# Altium footprint library PcbLib_DW.PcbLib: 53 footprints (part 3 of 4)
Each footprint in its own frame and in the unit in brackets; x right, y up, seen from the top. Pads: shape width x height; smd on the part's side, far side on the other; paste and mask are expansions set on the pad; w line width, h text height; cw(c..) or ccw(c..) is an arc to the next point about the centre after c.
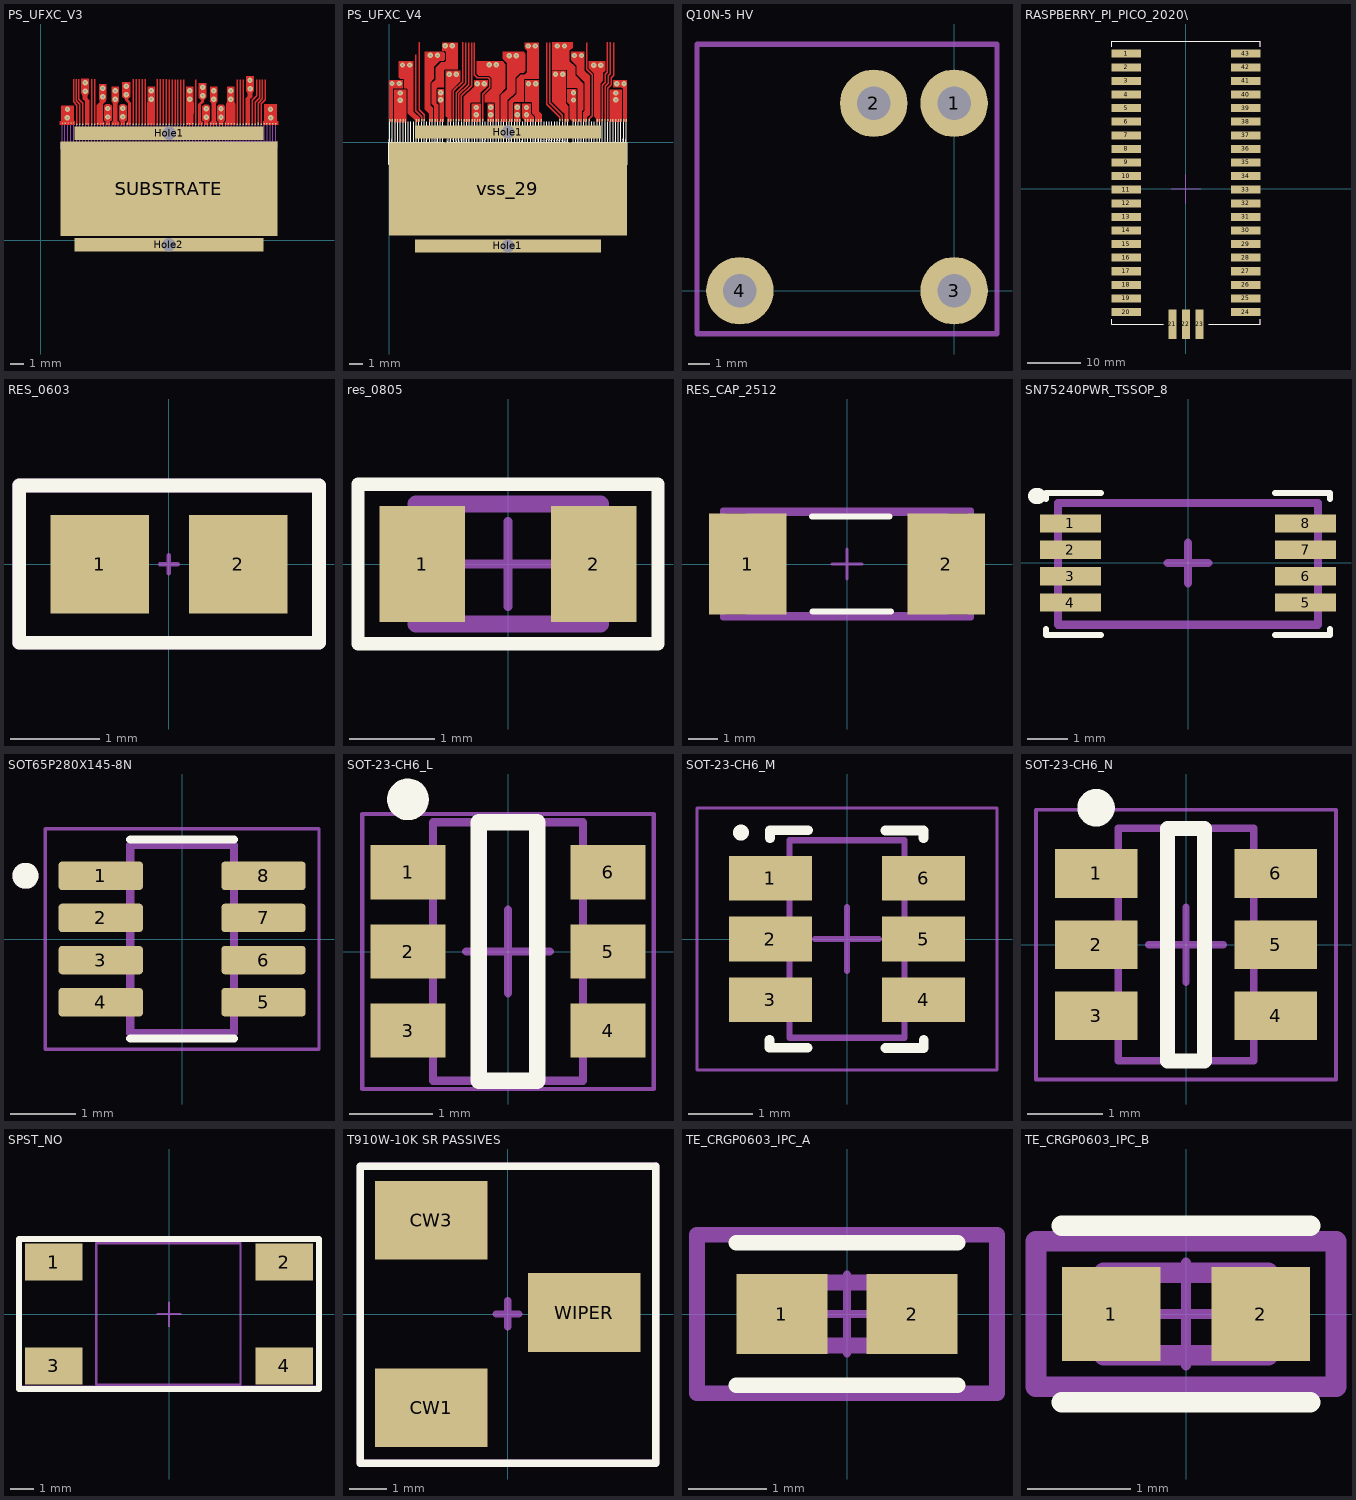
[diagram p2: the footprints below, top view; thin cyan lines are the x and y axes]

## PS_UFXC_V3 [mm]
pads (76):
  rect 0.102x0.102 smd mask+0: cal_n(3.758,8.6) cal_p(3.979,8.599) ctl_clk_n(7.276,8.6) ctl_clk_p(7.058,8.6) ctl_sin_n(7.724,8.598) ctl_sin_p(7.503,8.598) ctl_sout_n_0(9.283,8.601) ctl_sout_n_1(9.722,8.601) ctl_sout_n_2(10.163,8.601) ctl_sout_n_3(10.602,8.601) ctl_sout_p_0(9.061,8.601) ctl_sout_p_1(9.503,8.601) ctl_sout_p_2(9.944,8.601) ctl_sout_p_3(10.383,8.601) ctl_str_n(8.835,8.6) ctl_str_p(8.616,8.6) i_cas(2.659,8.6) i_dis(16.329,8.6) i_krum(2.878,8.6) i_ref(15.669,8.6) i_sh(15.888,8.6) i_trim(3.099,8.6) lvds_ref_in(6.838,8.6) lvds_ref_out(11.489,8.6) vt_2(15.008,8.601) vt_4(14.788,8.6) vt_r(14.567,8.6)
  rect 0.1x0.1 smd mask+0: detring_I(1.591,8.682) detring_II(17.419,8.641) prot_a_vdd(4.213,8.633) prot_a_vss(2.408,8.696) prot_r_vdd(14.118,8.634) prot_r_vss(16.552,8.646) Sub!_I(5.719,8.626) Sub!_II(12.586,8.64) vdd_a_I(4.436,8.625) vdd_a_II(4.608,8.632) vdd_a_III(13.685,8.634) vdd_a_IV(13.898,8.634) vdd_c_I(5.975,8.627) vdd_c_II(6.156,8.627) vdd_c_III(12.169,8.623) vdd_c_IV(12.345,8.624) vdd_d_I(4.875,8.622) vdd_d_II(5.059,8.621) vdd_d_III(13.253,8.633) vdd_d_IV(13.439,8.635) vdd_m_I(3.345,8.63) vdd_m_II(3.513,8.626) vdd_p_I(6.404,8.635) vdd_p_II(6.601,8.635) vdd_p_III(11.713,8.622) vdd_p_IV(11.91,8.624) vdd_ref(14.339,8.639) vshield_I(1.805,8.685) vshield_II(17.203,8.643) vss_a_I(2.025,8.693) vss_a_II(2.244,8.698) vss_a_III(5.315,8.62) vss_a_IV(5.53,8.621) vss_a_V(12.8,8.638) vss_a_VI(13.01,8.638) vss_a_VII(16.758,8.651) vss_a_VIII(16.979,8.643) vss_I(8.177,8.619) vss_II(8.389,8.624) vss_III(10.846,8.647) vss_IV(11.032,8.648) vss_s_I(7.958,8.619) vss_s_II(11.25,8.647)
  rect 14x1 hole 1 square mask+0: Hole1(9.501,7.928) Hole2(9.495,-0.327)
  rect 0.102x0.2 smd mask+0: i_source_ref(16.108,8.65)
  rect 16.1x7 smd mask+0: SUBSTRATE(9.496,3.808)
  rect 0.1x0.15 smd mask+0: vdd_m_III(15.237,8.617) vdd_m_IV(15.427,8.615)
via 12.81,11.085 diameter 0.404 hole 0.15
via 12.809,10.454 diameter 0.404 hole 0.15
via 11.987,10.725 diameter 0.404 hole 0.15
via 11.988,11.356 diameter 0.404 hole 0.15
via 13.354,9.135 diameter 0.404 hole 0.15
via 13.355,9.766 diameter 0.404 hole 0.15
via 11.043,10.463 diameter 0.404 hole 0.15
via 11.044,11.094 diameter 0.404 hole 0.15
via 5.511,10.453 diameter 0.404 hole 0.15
via 5.51,11.084 diameter 0.404 hole 0.15
via 4.967,9.774 diameter 0.404 hole 0.15
via 4.966,9.142 diameter 0.404 hole 0.15
via 3.27,11.062 diameter 0.404 hole 0.15
via 1.964,9.083 diameter 0.404 hole 0.15
via 1.969,9.717 diameter 0.404 hole 0.15
via 3.269,11.693 diameter 0.404 hole 0.15
via 4.584,10.643 diameter 0.404 hole 0.15
via 4.583,11.275 diameter 0.404 hole 0.15
via 6.075,9.776 diameter 0.404 hole 0.15
via 6.074,9.145 diameter 0.404 hole 0.15
via 8.175,11.096 diameter 0.404 hole 0.15
via 8.174,10.465 diameter 0.404 hole 0.15
via 12.262,9.136 diameter 0.404 hole 0.15
via 12.263,9.767 diameter 0.404 hole 0.15
via 6.335,10.798 diameter 0.404 hole 0.15
via 6.334,11.43 diameter 0.404 hole 0.15
via 14.085,10.452 diameter 0.404 hole 0.15
via 14.085,11.084 diameter 0.404 hole 0.15
via 15.508,11.862 diameter 0.404 hole 0.15
via 15.509,11.23 diameter 0.404 hole 0.15
via 17.026,9.718 diameter 0.404 hole 0.15
via 17.031,9.083 diameter 0.404 hole 0.15
Top Layer:
  region: 3.268,9.946 3.268,10.313 3.108,10.472 3.108,10.528 3.416,10.528 3.575,10.368 3.575,9.946
  region: 4.153,10.025 4.368,10.24 4.368,10.304 4.793,10.304 4.578,10.089 4.578,10.025
  region: 12.539,11.378 12.539,10.288 12.658,10.117 12.966,10.117 13.081,10.288 13.081,11.378
  region: 13.064,8.55 12.521,8.55 12.521,8.74 12.658,8.877 12.658,10.133 12.966,10.133 12.966,8.872 13.064,8.752
  region: 11.702,11.647 11.702,10.565 11.878,10.389 12.088,10.389 12.275,10.565 12.275,11.647
  region: 11.984,8.548 11.656,8.548 11.656,10.053 11.865,10.053 11.865,8.853 11.984,8.734
  region: 10.772,8.549 11.315,8.549 11.315,10.193 10.772,10.193
  region: 7.902,8.549 8.445,8.549 8.445,10.192 7.902,10.192
  region: 5.256,8.549 5.799,8.549 5.799,8.74 5.662,8.876 5.662,10.132 5.354,10.132 5.354,8.872 5.256,8.751
  region: 4.153,8.549 4.695,8.549 4.695,8.737 4.578,8.854 4.578,10.025 4.153,10.025
  region: 13.503,8.549 13.503,8.766 13.629,8.892 13.629,9.951 13.504,10.062 13.197,10.062 13.071,9.951 13.071,8.909 13.197,8.783 13.197,8.549
  region: 11.314,10.172 11.314,11.377 10.772,11.377 10.772,11.256 10.772,10.172
  region: 5.781,11.377 5.781,10.288 5.662,10.116 5.354,10.116 5.239,10.288 5.239,11.377
  region: 4.854,11.565 4.854,10.469 4.793,10.304 4.368,10.304 4.31,10.469 4.31,11.565
  region: 3.555,11.984 3.555,10.888 3.416,10.728 3.416,10.528 3.108,10.528 3.108,10.726 2.982,10.888 2.982,11.984
  region: 2.502,8.549 2.502,8.83 2.439,8.83 2.439,9.967 1.503,9.967 1.503,8.83 1.393,8.83 1.393,8.549
  region: 5.115,8.55 5.115,8.773 5.241,8.899 5.241,9.958 5.116,10.069 4.809,10.069 4.683,9.958 4.683,8.899 4.809,8.773 4.809,8.55
  region: 6.223,8.549 6.223,8.776 6.349,8.902 6.349,9.96 6.224,10.072 5.917,10.072 5.791,9.96 5.791,8.902 5.917,8.776 5.917,8.549
  region: 8.445,10.174 8.445,11.377 7.903,11.377 7.903,11.257 7.903,10.174
  region: 12.411,8.549 12.411,8.786 12.537,8.912 12.537,9.951 12.412,10.063 12.105,10.063 11.979,9.951 11.979,8.911 12.105,8.785 12.105,8.549
  region: 3.268,8.549 3.575,8.549 3.575,9.946 3.268,9.946
  region: 6.62,11.72 6.62,10.638 6.444,10.463 6.234,10.463 6.047,10.638 6.047,11.72
  region: 6.347,8.55 6.675,8.55 6.675,10.15 6.466,10.15 6.466,8.854 6.347,8.734
  region: 14.412,8.549 13.618,8.549 13.618,8.736 13.754,8.872 13.754,10.128 14.412,10.128 14.412,8.736
  region: 13.815,11.376 13.815,10.287 13.754,10.128 13.935,10.128 14.412,10.128 14.356,10.287 14.356,11.376
  region: 15.182,8.549 15.493,8.549 15.493,9.947 15.182,9.947
  region: 15.794,12.152 15.794,11.056 15.655,10.896 15.655,10.696 15.344,10.696 15.344,10.897 15.221,11.056 15.221,12.152
  region: 16.493,8.549 16.493,8.83 16.555,8.83 16.555,10.081 17.491,10.081 17.491,8.83 17.601,8.83 17.601,8.549
  region: 6.466,10.15 6.235,10.382 6.234,10.463 6.444,10.463 6.444,10.447 6.675,10.216 6.675,10.15
  region: 11.656,10.053
  region: 11.656,10.053 11.656,10.087 11.878,10.309 11.878,10.389 12.088,10.389 12.088,10.276 12.058,10.247 11.865,10.053
  region: 15.182,9.947 15.182,10.534 15.344,10.696 15.655,10.696 15.655,10.612 15.493,10.449 15.493,9.947
  lines w0.102: 2.425,11.928 2.425,10.259 2.659,10.025 2.659,9.967 2.659,9.93 2.659,8.6 ; 2.622,11.928 2.622,10.33 2.878,10.074 2.878,9.935 2.878,8.6 ; 2.812,11.928 2.812,10.446 3.099,10.158 3.099,9.938 3.099,8.6 ; 3.758,8.6 3.758,11.928 ; 3.976,11.928 3.979,8.599 ; 6.832,11.928 6.838,8.6 ; 7.056,11.928 7.058,8.6 ; 7.276,8.6 7.28,11.928 ; 7.503,8.598 7.503,11.928 ; 7.724,8.598 7.724,11.928 ; 8.616,8.6 8.616,11.926 ; 8.835,8.6 8.835,11.929 ; 9.061,8.601 9.061,11.924 ; 9.283,8.601 9.283,11.924 ; 9.503,8.601 9.503,11.916 ; 9.722,8.601 9.722,11.923 ; 9.944,8.601 9.944,11.923 ; 10.163,8.601 10.163,11.918 ; 10.383,8.601 10.383,11.92 ; 10.602,8.601 10.602,11.923 ; 11.489,8.6 11.489,11.918 ; 14.567,8.6 14.567,11.916 ; 14.788,8.6 14.788,11.911 ; 15.008,8.601 15.008,11.903 ; 15.669,8.6 15.669,9.931 15.669,10.384 16,10.716 16,11.91 ; 15.888,8.6 15.888,9.93 15.888,10.239 16.226,10.577 16.226,11.905 ; 16.109,8.6 16.109,9.93 16.109,10.161 16.428,10.48 16.428,11.907 ; 16.329,8.6 16.329,9.93 16.329,10.112 16.652,10.435 16.652,11.905
Mechanical 15:
  drawing of 730 lines, arcs and shapes, not listed
  text "i_dis" at 16.29,6.866 h0.04
  text "vdd_c" at 12.222,6.86 h0.04
  text "vss" at 8.136,6.84 h0.04
  text "vdd_c" at 6.141,6.84 h0.04
  text "cal_p" at 4.045,6.832 h0.04
  text "vss_a" at 2.061,6.819 h0.04
  text "detring" at 17.377,6.871 h0.04
  text "detring" at 17.484,6.869 h0.04
  text "vshield" at 17.281,6.873 h0.04
  text "vss_a" at 16.952,6.875 h0.04
  text "vshield" at 17.172,6.873 h0.04
  text "vss_a" at 17.062,6.875 h0.04
  text "vss_a" at 16.841,6.868 h0.04
  text "vss_a" at 16.731,6.867 h0.04
  text "prot_r_vss" at 16.497,6.868 h0.04
  text "prot_r_vss" at 16.604,6.866 h0.04
  text "i_dis" at 16.4,6.867 h0.04
  text "i_source_ref" at 16.062,6.867 h0.04
  text "i_source_ref" at 16.17,6.865 h0.04
  text "i_sh" at 15.842,6.866 h0.04
  text "i_sh" at 15.95,6.865 h0.04
  text "i_ref" at 15.734,6.869 h0.04
  text "vdd_m" at 15.411,6.87 h0.04
  text "i_ref" at 15.625,6.868 h0.04
  text "vdd_m" at 15.521,6.87 h0.04
  text "vdd_m" at 15.3,6.863 h0.04
  text "vdd_m" at 15.19,6.862 h0.04
  text "vt_2" at 14.962,6.863 h0.04
  text "vt_2" at 15.07,6.862 h0.04
  text "vt_4" at 14.743,6.862 h0.04
  text "vt_4" at 14.85,6.861 h0.04
  text "vt_r" at 14.634,6.865 h0.04
  text "vdd_ref" at 14.311,6.867 h0.04
  text "vt_r" at 14.525,6.865 h0.04
  text "vdd_ref" at 14.421,6.866 h0.04
  text "prot_r_vdd" at 14.194,6.86 h0.04
  text "prot_r_vdd" at 14.084,6.859 h0.04
  text "vdd_a" at 13.862,6.86 h0.04
  text "vdd_a" at 13.97,6.858 h0.04
  text "vdd_a" at 13.643,6.859 h0.04
  text "vdd_a" at 13.75,6.858 h0.04
  text "vdd_d" at 13.534,6.862 h0.04
  text "vdd_d" at 13.211,6.863 h0.04
  text "vdd_d" at 13.425,6.862 h0.04
  text "vdd_d" at 13.321,6.863 h0.04
  text "vss_a" at 13.101,6.856 h0.04
  text "vss_a" at 12.991,6.856 h0.04
  text "vss_a" at 12.763,6.856 h0.04
  text "vss_a" at 12.87,6.855 h0.04
  text "Sub!" at 12.549,6.855 h0.04
  text "Sub!" at 12.657,6.854 h0.04
  text "vdd_c" at 12.435,6.858 h0.04
  text "vdd_c" at 12.325,6.858 h0.04
  text "vdd_c" at 12.112,6.86 h0.04
  text "vdd_p" at 11.995,6.853 h0.04
  text "vdd_p" at 11.885,6.852 h0.04
  text "vdd_p" at 11.657,6.852 h0.04
  text "vdd_p" at 11.764,6.851 h0.04
  text "lvds_ref_out" at 11.443,6.852 h0.04
  text "lvds_ref_out" at 11.551,6.85 h0.04
  text "vss_s" at 11.334,6.851 h0.04
  text "vss_s" at 11.224,6.85 h0.04
  text "vss" at 11.002,6.851 h0.04
  text "vss" at 11.11,6.85 h0.04
  text "vss" at 10.783,6.85 h0.04
  text "vss" at 10.89,6.849 h0.04
  text "ctl_sout_n_3" at 10.668,6.853 h0.04
  text "ctl_sout_p_3" at 10.339,6.855 h0.04
  text "ctl_sout_n_3" at 10.559,6.853 h0.04
  text "ctl_sout_p_3" at 10.448,6.854 h0.04
  text "ctl_sout_n_2" at 10.234,6.847 h0.04
  text "ctl_sout_n_2" at 10.124,6.847 h0.04
  text "ctl_sout_p_2" at 9.89,6.847 h0.04
  text "ctl_sout_p_2" at 9.997,6.846 h0.04
  text "ctl_sout_n_1" at 9.677,6.847 h0.04
  text "ctl_sout_n_1" at 9.784,6.845 h0.04
  text "ctl_sout_p_1" at 9.562,6.85 h0.04
  text "ctl_sout_n_0" at 9.245,6.851 h0.04
  text "ctl_sout_p_1" at 9.453,6.849 h0.04
  text "ctl_sout_n_0" at 9.355,6.851 h0.04
  text "ctl_sout_p_0" at 9.126,6.844 h0.04
  text "ctl_sout_p_0" at 9.016,6.844 h0.04
  text "ctl_str_n" at 8.901,6.846 h0.04
  text "ctl_str_p" at 8.572,6.847 h0.04
  text "ctl_str_n" at 8.792,6.845 h0.04
  text "ctl_str_p" at 8.682,6.847 h0.04
  text "vss" at 8.474,6.84 h0.04
  text "vss" at 8.364,6.839 h0.04
  text "vss" at 8.243,6.838 h0.04
  text "vss_s" at 7.91,6.839 h0.04
  text "vss_s" at 8.017,6.838 h0.04
  text "ctl_sin_n" at 7.796,6.838 h0.04
  text "ctl_sin_n" at 7.686,6.837 h0.04
  text "ctl_sin_p" at 7.452,6.838 h0.04
  text "ctl_sin_p" at 7.559,6.836 h0.04
  text "ctl_clk_n" at 7.24,6.843 h0.04
  text "ctl_clk_n" at 7.35,6.843 h0.04
  text "ctl_clk_p" at 7.123,6.836 h0.04
  text "ctl_clk_p" at 7.013,6.836 h0.04
  text "lvds_ref_in" at 6.792,6.836 h0.04
  text "lvds_ref_in" at 6.899,6.835 h0.04
  text "vdd_p" at 6.566,6.836 h0.04
  text "vdd_p" at 6.673,6.834 h0.04
  text "vdd_p" at 6.457,6.838 h0.04
  text "vdd_p" at 6.348,6.838 h0.04
  text "vdd_c" at 6.251,6.84 h0.04
  text "vdd_c" at 6.03,6.833 h0.04
  text "vdd_c" at 5.92,6.832 h0.04
  text "Sub!" at 5.698,6.832 h0.04
  text "Sub!" at 5.806,6.831 h0.04
  text "vss_a" at 5.472,6.832 h0.04
  text "vss_a" at 5.58,6.83 h0.04
  text "vss_a" at 5.364,6.835 h0.04
  text "vdd_d" at 5.041,6.836 h0.04
  text "vss_a" at 5.255,6.834 h0.04
  text "vdd_d" at 5.151,6.836 h0.04
  text "vdd_d" at 4.93,6.829 h0.04
  text "vdd_d" at 4.82,6.828 h0.04
  text "vdd_a" at 4.592,6.829 h0.04
  text "vdd_a" at 4.7,6.827 h0.04
  text "vdd_a" at 4.373,6.828 h0.04
  text "vdd_a" at 4.48,6.827 h0.04
  text "prot_a_vdd" at 4.258,6.831 h0.04
  text "prot_a_vdd" at 4.149,6.831 h0.04
  text "i_trim" at 3.165,6.829 h0.04
  text "i_trim" at 3.056,6.828 h0.04
  text "cal_p" at 3.935,6.832 h0.04
  text "cal_n" at 3.83,6.826 h0.04
  text "cal_n" at 3.72,6.825 h0.04
  text "vdd_m" at 3.492,6.826 h0.04
  text "vdd_m" at 3.6,6.824 h0.04
  text "vdd_m" at 3.273,6.825 h0.04
  text "vdd_m" at 3.38,6.824 h0.04
  text "i_krum" at 2.944,6.827 h0.04
  text "i_cas" at 2.621,6.829 h0.04
  text "i_krum" at 2.835,6.827 h0.04
  text "i_cas" at 2.731,6.829 h0.04
  text "prot_a_vss" at 2.504,6.822 h0.04
  text "prot_a_vss" at 2.394,6.821 h0.04
  text "vss_a" at 2.173,6.821 h0.04
  text "vss_a" at 2.28,6.82 h0.04
  text "vss_a" at 1.953,6.821 h0.04
  text "vshield" at 1.851,6.824 h0.04
  text "detring" at 1.515,6.825 h0.04
  text "vshield" at 1.742,6.823 h0.04
  text "detring" at 1.625,6.825 h0.04

## PS_UFXC_V4 [mm]
pads (77):
  rect 0.102x0.2 smd mask+0: cal_n(2.441,1.66) cal_p(2.641,1.66) ctl_clk_n(5.439,1.661) ctl_clk_p(5.239,1.66) ctl_sin_n(5.039,1.66) ctl_sin_p(4.839,1.66) ctl_sout_n_3(13.039,1.658) ctl_sout_p_3(12.839,1.658) ctl_strobe(7.039,1.66) vdd_a_1(3.06,1.662) vdd_a_2(3.239,1.662) vdd_a_3(8.45,1.66) vdd_a_4(8.639,1.66) vdd_a_5(8.829,1.66) vdd_a_6(14.651,1.66) vdd_a_7(14.829,1.661) vdd_core_1(0.051,1.66) vdd_core_2(0.23,1.66) vdd_core_3(5.65,1.66) vdd_core_4(5.839,1.66) vdd_core_5(6.029,1.66) vdd_core_6(11.05,1.66) vdd_core_7(11.24,1.66) vdd_core_8(11.429,1.66) vdd_core_9(17.651,1.66) vdd_core_10(17.829,1.661) vdd_discr_1(3.461,1.662) vdd_discr_2(3.639,1.663) vdd_discr_3(9.05,1.66) vdd_discr_4(9.228,1.661) vdd_discr_5(14.251,1.66) vdd_discr_6(14.429,1.661) vdd_m_1(2.051,1.66) vdd_m_2(2.23,1.66) vdd_m_3(8.05,1.66) vdd_m_4(8.229,1.661) vdd_m_5(15.651,1.66) vdd_m_6(15.829,1.66) vdd_peri_1(4.45,1.66) vdd_peri_2(4.629,1.661) vdd_peri_3(13.25,1.659) vdd_peri_4(13.429,1.659) vss_1(0.451,1.66) vss_2(0.63,1.66) vss_3(0.841,1.66) vss_4(1.052,1.66) vss_5(1.23,1.66) vss_6(3.86,1.662) vss_7(4.039,1.662) vss_8(6.25,1.66) vss_9(6.428,1.661) vss_10(6.65,1.661) vss_11(6.828,1.661) vss_12(7.45,1.66) vss_13(7.64,1.66) vss_14(7.829,1.66) vss_15(9.45,1.66) vss_16(9.64,1.66) vss_17(9.829,1.66) vss_18(10.25,1.661) vss_19(10.428,1.661) vss_20(10.65,1.66) vss_21(10.828,1.66) vss_22(13.851,1.66) vss_23(14.029,1.661) vss_24(16.651,1.66) vss_25(16.829,1.661) vss_26(17.04,1.66) vss_27(17.251,1.66) vss_28(17.429,1.66) vt_0(16.04,1.66) vt_1(16.24,1.66) vt_2(16.44,1.66) vtemp(15.04,1.66)
  rect 14x1 hole 1 square mask+0: Hole1(8.94,0.783) Hole1(8.94,-7.785)
  rect 17.88x7 smd mask+0: vss_29(8.939,-3.501)
via 6.626,4.425 diameter 0.404 hole 0.15
via 7.521,5.842 diameter 0.404 hole 0.15
via 8.061,5.842 diameter 0.404 hole 0.15
via 9.639,2.096 diameter 0.404 hole 0.15
via 9.639,2.636 diameter 0.404 hole 0.15
via 9.563,6.534 diameter 0.404 hole 0.15
via 9.023,6.534 diameter 0.404 hole 0.15
via 7.639,2.096 diameter 0.404 hole 0.15
via 7.639,2.636 diameter 0.404 hole 0.15
via 7.166,4.425 diameter 0.404 hole 0.15
via 4.509,5.13 diameter 0.404 hole 0.15
via 5.049,5.13 diameter 0.404 hole 0.15
via 6.552,2.093 diameter 0.404 hole 0.15
via 6.552,2.633 diameter 0.404 hole 0.15
via 10.481,4.423 diameter 0.404 hole 0.15
via 11.021,4.423 diameter 0.404 hole 0.15
via 10.331,2.629 diameter 0.404 hole 0.15
via 10.331,2.089 diameter 0.404 hole 0.15
via 10.463,7.261 diameter 0.404 hole 0.15
via 11.003,7.261 diameter 0.404 hole 0.15
via 13.053,5.131 diameter 0.404 hole 0.15
via 13.195,7.259 diameter 0.404 hole 0.15
via 12.655,7.259 diameter 0.404 hole 0.15
via 12.513,5.131 diameter 0.404 hole 0.15
via 4.753,7.266 diameter 0.404 hole 0.15
via 4.213,7.266 diameter 0.404 hole 0.15
via 3.876,3.741 diameter 0.404 hole 0.15
via 3.876,3.201 diameter 0.404 hole 0.15
via 3.635,6.555 diameter 0.404 hole 0.15
via 3.095,6.555 diameter 0.404 hole 0.15
via 0.831,3.72 diameter 0.404 hole 0.15
via 0.831,3.18 diameter 0.404 hole 0.15
via 1.546,5.828 diameter 0.404 hole 0.15
via 1.006,5.828 diameter 0.404 hole 0.15
via 0.758,4.437 diameter 0.404 hole 0.15
via 0.218,4.437 diameter 0.404 hole 0.15
via 17.051,3.205 diameter 0.404 hole 0.15
via 17.051,3.718 diameter 0.404 hole 0.15
via 13.867,3.733 diameter 0.404 hole 0.15
via 13.867,3.193 diameter 0.404 hole 0.15
via 15.383,5.82 diameter 0.404 hole 0.15
via 15.923,5.82 diameter 0.404 hole 0.15
via 14.469,6.544 diameter 0.404 hole 0.15
via 13.929,6.544 diameter 0.404 hole 0.15
via 17.665,4.425 diameter 0.404 hole 0.15
via 17.125,4.425 diameter 0.404 hole 0.15
Top Layer:
  region: 8.279,1.56 7.999,1.56 7.999,2.931 7.901,3.029 7.202,3.029 7.202,3.555 7.726,4.08 7.726,4.846 7.536,5.036 6.734,5.036 6.597,5.172 6.597,6.095 8.543,6.095 8.743,5.896 8.743,4.06 8.279,3.597
  region: 9.88,1.56 9.399,1.56 9.399,2.9 9.88,2.901
  region: 8.88,1.56 8.399,1.56 8.399,3.536 8.879,4.016 8.879,5.966 8.547,6.298 8.547,6.806 9.405,6.806 10.113,6.806 10.247,6.671 10.248,5.384 10.113,5.25 9.844,5.25 9.471,4.877 9.471,3.75 8.88,3.159
  region: 7.88,1.56 7.399,1.56 7.399,2.9 7.88,2.901
  region: 6.08,1.559 5.599,1.559 5.599,3.42 6.387,4.208 6.387,4.672 7.402,4.672 7.402,4.27 6.868,3.736 6.868,3.018 6.173,3.018 6.08,2.925
  region: 4.399,1.56 4.68,1.56 4.68,3.945 5.348,4.612 5.348,5.384 4.254,5.384 4.255,1.985 4.399,1.841
  region: 6.879,1.56 6.199,1.56 6.199,2.9 6.879,2.901
  region: 11.481,1.56 10.999,1.56 10.999,1.967 10.777,2.19 10.777,2.947 10.677,3.047 10.247,3.047 10.247,4.672 11.241,4.672 11.242,3.151 11.241,2.346 11.481,2.107
  region: 10.88,1.56 10.199,1.56 10.199,1.657 10.007,1.849 10.007,2.901 10.648,2.901 10.648,2.162 10.88,1.93
  region: 8.999,1.559 9.279,1.559 9.279,2.932 9.4,3.053 10.129,3.053 10.129,4.726 10.198,4.795 11.238,4.795 11.238,7.517 10.185,7.517 10.185,7.106 10.382,6.909 10.383,5.29 10.205,5.113 9.899,5.113 9.582,4.795 9.582,3.68 8.999,3.097
  region: 13.48,1.558 13.199,1.558 13.199,1.779 13.199,2.157 12.994,2.363 12.282,3.074 12.282,5.384 13.277,5.384 13.277,5.207 13.276,2.943 13.484,2.736 13.484,1.779
  region: 4.09,2.56 4.09,1.562 3.809,1.562 3.809,2.899 3.663,3.045 3.663,3.992 4.09,3.992
  region: 2.673,2.492 3.01,2.155 3.009,1.802 3.009,1.561 3.291,1.561 3.291,1.802 3.291,2.612 3.086,2.817 3.086,4.502 3.36,4.776 3.36,5.7 3.808,6.148 4.112,6.148 4.18,6.215 4.18,6.703 4.074,6.808 2.673,6.808
  region: 3.98,7.519 5.166,7.519 5.166,5.508 4.188,5.508 4.09,5.41 4.09,4.146 3.657,4.146 3.544,4.033 3.544,2.966 3.69,2.819 3.69,1.562 3.409,1.562 3.409,2.706 3.218,2.897 3.218,4.455 3.488,4.725 3.488,5.61 3.903,6.026 4.19,6.026 4.3,6.136 4.3,6.788 4.173,6.915 3.98,6.915
  region: 2,1.766 2.281,1.766 2.281,1.56 2,1.56
  region: 0,1.764 0,1.558 0.281,1.558 0.281,1.764 0.281,4.034 0.336,4.089 1.007,4.089 1.007,4.672 -0.006,4.672
  region: 0.397,1.533 1.283,1.533 1.282,3.961 0.397,3.961
  region: 1.999,1.557 2.286,1.557 2.286,1.856 1.829,2.312 1.829,6.094 0.72,6.094 0.72,4.915 0.842,4.794 1.064,4.794 1.138,4.72 1.138,4.095 1.334,4.095 1.415,4.014 1.415,2.21 1.999,1.626
  region: 16.599,1.559 17.481,1.559 17.481,3.983 16.599,3.983
  region: 15.88,2.041 15.881,1.56 15.594,1.56 15.594,1.801 15.429,1.966 15.429,5.176 15.019,5.586 15.019,6.096 16.238,6.096 16.238,5.385 16.08,5.227 16.08,4.631 15.88,4.431
  region: 14.081,3.993 14.081,1.779 14.081,1.559 13.8,1.559 13.592,1.766 13.592,2.823 13.389,3.026 13.389,3.993
  region: 14.881,1.56 14.6,1.56 14.6,2.269 14.721,2.39 14.721,4.512 14.109,5.124 14.109,5.76 13.685,6.184 13.685,6.807 13.903,6.807 14.689,6.807 14.689,5.408 15.091,5.02 15.091,2.102 14.881,1.892
  region: 13.794,7.523 12.28,7.523 12.28,5.488 13.362,5.488 13.389,5.461 13.389,4.103 14.129,4.103 14.202,4.029 14.2,3.058 14.2,1.774 14.2,1.559 14.481,1.559 14.481,2.34 14.613,2.472 14.613,4.415 13.99,5.038 13.99,5.701 13.566,6.125 13.566,6.886 13.794,7.114
  region: 17.882,1.765 17.882,1.56 17.6,1.56 17.6,1.765 17.6,4.026 17.46,4.166 16.85,4.166 16.851,4.674 17.887,4.674
  lines w0.102: 2.009,6.588 2.009,2.381 2.441,1.949 2.441,1.66 ; 2.26,7.523 2.26,2.463 2.641,2.083 2.641,1.66 ; 4.839,1.66 4.839,3.879 5.524,4.563 5.524,7.523 ; 5.039,1.66 5.039,3.744 5.753,4.458 5.753,7.507 ; 5.239,1.66 5.239,3.609 5.971,4.34 5.971,7.507 ; 5.439,1.661 5.439,3.505 6.197,4.263 6.197,7.512 ; 6.419,7.501 6.419,5.086 6.639,4.866 7.459,4.866 7.561,4.763 7.561,4.167 7.039,3.645 7.039,1.66 ; 11.862,7.508 11.862,2.879 12.839,1.901 12.839,1.658 ; 12.08,7.508 12.079,2.994 13.039,2.033 13.039,1.658 ; 14.86,7.502 14.86,5.499 15.265,5.095 15.265,1.994 15.04,1.77 15.04,1.66 ; 16.041,1.639 16.041,4.314 16.267,4.539 16.267,5.139 16.401,5.274 16.401,5.627 ; 16.241,1.639 16.241,4.217 16.481,4.457 16.481,5.014 16.649,5.182 16.649,7.528 ; 16.401,5.609 16.401,7.538 ; 16.441,1.637 16.441,4.096 16.693,4.348 16.693,4.87 16.891,5.068 16.891,7.512
Top Overlay:
  drawing of 657 lines, arcs and shapes, not listed
  text "ctl_sin_p" at 4.866,-0.595 h0.05
  text "ctl_sin_n" at 5.076,-0.595 h0.05
  text "ctl_clk_p" at 5.266,-0.595 h0.05
  text "ctl_clk_n" at 5.476,-0.595 h0.05
  text "vdd_peri" at 4.456,-0.596 h0.05
  text "vdd_peri" at 4.656,-0.596 h0.05
  text "vdd_core" at 5.663,-0.596 h0.05
  text "vdd_core" at 5.863,-0.596 h0.05
  text "vdd_core" at 6.063,-0.596 h0.05
  text "vss" at 6.273,-0.596 h0.05
  text "vss" at 6.473,-0.596 h0.05
  text "vss" at 6.673,-0.596 h0.05
  text "vss" at 6.873,-0.596 h0.05
  text "ctl_strobe" at 7.065,-0.595 h0.05
  text "vss_a" at 7.464,-0.596 h0.05
  text "vss_a" at 7.664,-0.596 h0.05
  text "vss_a" at 7.864,-0.596 h0.05
  text "vdd_m" at 8.065,-0.595 h0.05
  text "vdd_m" at 8.265,-0.595 h0.05
  text "vdd_a" at 8.463,-0.596 h0.05
  text "vdd_a" at 8.663,-0.596 h0.05
  text "vdd_a" at 8.863,-0.596 h0.05
  text "vdd_discr" at 9.063,-0.596 h0.05
  text "vdd_discr" at 9.263,-0.596 h0.05
  text "vss_a" at 9.464,-0.596 h0.05
  text "vss_a" at 9.664,-0.596 h0.05
  text "vss_a" at 9.864,-0.596 h0.05
  text "vss" at 10.273,-0.596 h0.05
  text "vss" at 10.473,-0.596 h0.05
  text "vss" at 10.673,-0.596 h0.05
  text "vss" at 10.873,-0.596 h0.05
  text "vdd_core" at 11.065,-0.595 h0.05
  text "vdd_core" at 11.263,-0.596 h0.05
  text "vdd_core" at 11.465,-0.595 h0.05
  text "lvds_ref_in" at 7.265,-0.595 h0.05
  text "lvds_ref_out" at 10.065,-0.595 h0.05
  text "vdd_peri" at 4.565,-1.564 h0.1
  text "vdd_core" at 5.882,-1.566 h0.1
  text "vss" at 6.597,-1.567 h0.1
  text "vss_a" at 7.685,-1.566 h0.1
  text "vdd_m" at 8.179,-1.556 h0.1
  text "vdd_a" at 8.671,-1.549 h0.1
  text "vdd_discr" at 9.187,-1.547 h0.1
  text "vss_a" at 9.678,-1.547 h0.1
  text "vss" at 10.593,-1.546 h0.1
  text "vdd_core" at 11.272,-1.54 h0.1
  text "vdd_peri" at 13.256,-0.597 h0.05
  text "vdd_peri" at 13.456,-0.597 h0.05
  text "vdd_peri" at 13.357,-1.566 h0.1
  text "i_source_ref" at 2.868,-0.594 h0.05
  text "vdd_a" at 3.074,-0.595 h0.05
  text "vdd_a" at 3.274,-0.595 h0.05
  text "vdd_discr" at 3.474,-0.595 h0.05
  text "vdd_discr" at 3.674,-0.595 h0.05
  text "vss_a" at 3.875,-0.594 h0.05
  text "vss_a" at 4.075,-0.594 h0.05
  text "vdd_a" at 3.188,-1.568 h0.1
  text "vdd_discr" at 3.582,-1.566 h0.1
  text "vss_a" at 3.977,-1.564 h0.1
  text "SUBSTRATE" at 7.772,-4.114 h0.25
  text "vdd_core" at 0.181,-1.563 h0.1
  text "vss_a" at 1.266,-0.596 h0.05
  text "vss_a" at 1.066,-0.596 h0.05
  text "detring" at 0.857,-0.596 h0.05
  text "vss" at 0.674,-0.596 h0.05
  text "vss" at 0.474,-0.596 h0.05
  text "vdd_core" at 0.265,-0.597 h0.05
  text "vdd_core" at 0.065,-0.597 h0.05
  text "vdd_m" at 2.067,-0.595 h0.05
  text "vdd_m" at 2.267,-0.595 h0.05
  text "cal_n" at 2.467,-0.595 h0.05
  text "cal_p" at 2.657,-0.596 h0.05
  text "i_cas" at 1.467,-0.595 h0.05
  text "i_krum" at 1.667,-0.595 h0.05
  text "i_gm" at 1.857,-0.596 h0.05
  text "vss" at 0.605,-1.564 h0.1
  text "vdd_m" at 2.182,-1.564 h0.1
  text "vss_a" at 1.183,-1.565 h0.1
  text "ctl_sout_p_2" at 12.465,-0.596 h0.05
  text "ctl_sout_n_2" at 12.675,-0.595 h0.05
  text "ctl_sout_p_3" at 12.866,-0.597 h0.05
  text "ctl_sout_n_3" at 13.075,-0.596 h0.05
  text "ctl_sout_p_0" at 11.666,-0.595 h0.05
  text "ctl_sout_n_0" at 11.876,-0.594 h0.05
  text "ctl_sout_p_1" at 12.066,-0.596 h0.05
  text "ctl_sout_n_1" at 12.276,-0.595 h0.05
  text "vss_a" at 13.865,-0.596 h0.05
  text "vss_a" at 14.065,-0.596 h0.05
  text "vdd_discr" at 14.264,-0.597 h0.05
  text "vdd_discr" at 14.464,-0.597 h0.05
  text "vdd_a" at 14.666,-0.595 h0.05
  text "vdd_a" at 14.866,-0.595 h0.05
  text "vtemp" at 15.058,-0.595 h0.05
  text "vdd_m" at 15.664,-0.597 h0.05
  text "vdd_m" at 15.864,-0.597 h0.05
  text "vt_0" at 16.066,-0.595 h0.05
  text "vt_1" at 16.266,-0.595 h0.05
  text "vt_2" at 16.466,-0.595 h0.05
  text "vss_a" at 16.665,-0.596 h0.05
  text "vss_a" at 16.865,-0.596 h0.05
  text "detring" at 17.056,-0.596 h0.05
  text "vss" at 17.273,-0.596 h0.05
  text "vss" at 17.473,-0.596 h0.05
  text "vdd_core" at 17.666,-0.595 h0.05
  text "vdd_core" at 17.866,-0.595 h0.05
  text "i_trim" at 15.264,-0.597 h0.05
  text "i_dis" at 15.466,-0.595 h0.05
  text "vss_a" at 13.987,-1.563 h0.1
  text "vdd_discr" at 14.381,-1.56 h0.1
  text "vdd_a" at 14.78,-1.563 h0.1
  text "vdd_m" at 15.787,-1.558 h0.1
  text "vss" at 17.399,-1.562 h0.1
  text "vdd_core" at 17.768,-1.559 h0.1
  text "vss_a" at 16.777,-1.559 h0.1

## Q10N-5 HV [mm]
pads (4):
  round 3.2 hole 1.6: 1(0,8.89) 2(-3.81,8.89) 3(0,0) 4(-10.16,0)
Mechanical 1:
  lines w0.254: -12.192,-2.032 2.032,-2.032 2.032,11.684 -8.636,11.684 -12.192,11.684 -12.192,-2.032
3D body: height 12.7, standoff 0, extent -11.43,-1.27 1.27,11.176

## RASPBERRY_PI_PICO_2020\ [mm]
pads (43):
  rect 5.5x1.5 smd: 1(-11.176,25.273) 2(-11.176,22.733) 3(-11.176,20.193) 4(-11.176,17.653) 5(-11.176,15.113) 6(-11.176,12.573) 7(-11.176,10.033) 8(-11.176,7.493) 9(-11.176,4.953) 10(-11.176,2.413) 11(-11.176,-0.127) 12(-11.176,-2.667) 13(-11.176,-5.207) 14(-11.176,-7.747) 15(-11.176,-10.287) 16(-11.176,-12.827) 17(-11.176,-15.367) 18(-11.176,-17.907) 19(-11.176,-20.447) 20(-11.176,-22.987) 24(11.176,-22.987) 25(11.176,-20.447) 26(11.176,-17.907) 27(11.176,-15.367) 28(11.176,-12.827) 29(11.176,-10.287) 30(11.176,-7.747) 31(11.176,-5.207) 32(11.176,-2.667) 33(11.176,-0.127) 34(11.176,2.413) 35(11.176,4.953) 36(11.176,7.493) 37(11.176,10.033) 38(11.176,12.573) 39(11.176,15.113) 40(11.176,17.653) 41(11.176,20.193) 42(11.176,22.733) 43(11.176,25.273)
  rect 1.5x5.5 smd: 21(-2.54,-25.273) 22(0,-25.273) 23(2.54,-25.273)
Top Overlay:
  lines w0.2: -13.878,26.614 -13.878,27.573 -8.876,27.573 13.872,27.573 13.872,26.614 ; -13.871,-24.328 -13.871,-25.287 -4.23,-25.287 ; 4.228,-25.287 13.877,-25.287 13.877,-24.328
Mechanical 13:
  lines w0.2: -13.876,26.604 -13.876,27.563 -8.874,27.563 13.874,27.563 13.874,26.604 ; -13.875,-24.328 -13.875,-25.287 -4.226,-25.287 ; 4.228,-25.287 13.877,-25.287 13.877,-24.328
Mechanical 15:
  lines w0.2: -13.877,-24.328 -13.877,-25.287 -4.228,-25.287 ; -13.875,26.612 -13.875,27.57 -8.873,27.57 13.875,27.57 13.875,26.612 ; -2.75,0 0,0 ; 0,-2.75 0,0 ; 0,2.75 0,0 ; 2.75,0 0,0 ; 4.228,-25.287 13.877,-25.287 13.877,-24.328

## RES_0603 [mm] "Resistor_0603"
pads (2):
  rect 1.1x1.1 smd mask+0.08: 1(-0.775,0)
  rect 1.1x1.1 smd mask+0.085: 2(0.775,0)
Top Overlay:
  lines w0.153: -1.672,-0.876 -1.672,0.88 1.678,0.88 1.678,-0.876 -1.672,-0.876
Mechanical 10:
  lines w0.153: -1.675,-0.877 1.678,-0.877 1.678,0.881 -1.675,0.881 -1.675,-0.877
Mechanical 15:
  lines w0.05: -0.1,0 0.1,0 ; 0,-0.1 0,0.1
  lines w0.153: -1.677,-0.878 -1.677,0.885 1.677,0.885 1.677,-0.878 -1.677,-0.878
3D body "RES_CRCW_0603.step": height 0.51, standoff 0, extent -0.831,-0.47 0.821,0.47

## res_0805 [mm]
pads (2):
  rect 1x1.35 smd paste+0 mask+0.08: 1(-1,0) 2(1,0)
Top Overlay:
  lines w0.153: -1.75,-0.93 1.75,-0.93 1.75,0.93 -1.75,0.93 -1.75,-0.93
Mechanical 13:
  lines w0.2: -1.075,-0.7 -1.075,0.7 1.075,0.7 1.075,-0.7 -1.075,-0.7
Mechanical 15:
  lines w0.1: -0.5,0 0.5,0 ; 0,-0.5 0,0.5
  lines w0.2: -1.07,-0.7 1.08,-0.7 1.08,0.7 -1.07,0.7 -1.07,-0.7
3D body "Res_TE_Connectivity_RP73PF2A150RBTDF_eec.STEP": height 0.25, standoff 0, extent -1.6,-0.8 1.6,0.8

## RES_CAP_2512 [mm]
pads (2):
  rect 2.6x3.4 smd paste+0 mask+0: 1(-3.325,0) 2(3.325,0)
Top Overlay:
  lines w0.2: -1.166,1.596 1.416,1.596 ; -1.158,-1.586 1.476,-1.586
Mechanical 10:
  lines w0.2: -4.15,-1.8 -4.15,1.8 4.15,1.8 4.15,-1.8 -4.15,-1.8
  text ".Designator" at 0,0 h1
Mechanical 12:
  lines w0.2: -3.3,-1.7 -3.3,1.7 3.3,1.7 3.3,-1.7 -3.3,-1.7
Mechanical 15:
  lines w0.1: -0.5,0 0.5,0 ; 0,-0.5 0,0.5
  lines w0.2: -4.15,-1.8 -4.15,1.8 4.15,1.8 4.15,-1.8 -4.15,-1.8
3D body "Res_Panasonic_ERJ-1TRQFR22U_eec.STEP": height 0.25, standoff 0, extent -4.15,-1.8 4.15,1.8

## SN75240PWR_TSSOP_8 [mm]
pads (8):
  rect 1.5x0.45 smd mask+0.076: 1(-2.9,0.975) 2(-2.9,0.325) 3(-2.9,-0.325) 4(-2.9,-0.975) 5(2.9,-0.975) 6(2.9,-0.325) 7(2.9,0.325) 8(2.9,0.975)
Top Overlay:
  lines w0.153: -3.5,-1.625 -3.5,-1.775 -2.15,-1.775 ; -3.5,1.575 -3.5,1.725 -2.15,1.725 ; 2.15,-1.775 3.5,-1.775 3.5,-1.625 ; 2.15,1.725 3.5,1.725 3.5,1.575
  lines w0.4: -3.75,1.65 -3.7,1.65
Mechanical 13:
  lines w0.2: -3.21,-1.525 3.21,-1.525 3.21,1.475 -3.21,1.475 -3.21,-1.525
Mechanical 15:
  lines w0.2: -0.5,0 0.5,0 ; 0,-0.5 0,0.5 ; -3.21,-1.525 -3.21,1.475 3.21,1.475 3.21,-1.525 -3.21,-1.525
3D body "PW0008A.stp": height 1.1, standoff 0, extent -3.21,-1.525 3.21,1.475

## SOT65P280X145-8N [mm]
pads (8):
  rrect25% 1.3x0.44 smd mask+0: 1(-1.255,0.975) 2(-1.255,0.325) 3(-1.255,-0.325) 4(-1.255,-0.975) 5(1.255,-0.975) 6(1.255,-0.325) 7(1.255,0.325) 8(1.255,0.975)
Top Overlay:
  circle w0.2: c-2.415,0.975 r0.1
  lines w0.127: -0.8,-1.535 0.8,-1.535 ; -0.8,1.535 0.8,1.535
Mechanical 13:
  circle w0.2: c-2.415,0.975 r0.1
  lines w0.127: -0.8,-1.45 0.8,-1.45 0.8,1.45 -0.8,1.45 -0.8,-1.45
Mechanical 15:
  lines w0.05: -2.11,-1.7 2.11,-1.7 2.11,1.7 -2.11,1.7 -2.11,-1.7
3D body "step_temp.STEP": height 1.45, standoff 0, extent -1.4,-1.45 1.4,1.45

## SOT-23-CH6_L [mm] "SOT23, 6-Leads, Body 2.9x1.7mm, Pitch 0.95mm, Lead Span 2.8mm, IPC High Density"
height 1.45
pads (6):
  rect 0.9x0.65 smd: 1(-1.2,0.95) 2(-1.2,0) 3(-1.2,-0.95) 4(1.2,-0.95) 5(1.2,0) 6(1.2,0.95)
Top Overlay:
  circle w0.25: c-1.2,1.825 r0.125
  lines w0.2: -0.35,-1.55 -0.35,1.55 0.35,1.55 0.35,-1.55 -0.35,-1.55
Mechanical 13:
  lines w0.1: -0.9,-1.55 0.9,-1.55 0.9,1.55 -0.9,1.55 -0.9,-1.55
Mechanical 15:
  lines w0.05: -1.75,-1.65 1.75,-1.65 1.75,1.65 -1.75,1.65 -1.75,-1.65
  lines w0.1: -0.5,0 0.5,0 ; 0,-0.5 0,0.5
3D body: height 1.45, standoff 0, extent -0.9,-1.55 0.9,1.55

## SOT-23-CH6_M [mm] "SOT23, 6-Leads, Body 2.9x1.7mm, Pitch 0.95mm, Lead Span 2.8mm, IPC Low Density"
height 1.45
pads (6):
  rect 1.3x0.7 smd mask+0: 1(-1.2,0.95) 2(-1.2,0) 3(-1.2,-0.95) 4(1.2,-0.95) 5(1.2,0) 6(1.2,0.95)
Top Overlay:
  circle w0.25: c-1.664,1.666 r0
  lines w0.153: -1.215,-1.58 -1.215,-1.702 -0.615,-1.702 ; -1.206,1.58 -1.206,1.703 -0.606,1.703 ; 0.6,1.7 1.2,1.7 1.2,1.578 ; 0.601,-1.706 1.201,-1.706 1.201,-1.584
Mechanical 13:
  lines w0.1: -0.9,-1.55 0.9,-1.55 0.9,1.55 -0.9,1.55 -0.9,-1.55
Mechanical 15:
  lines w0.05: -2.35,-2.05 2.35,-2.05 2.35,2.05 -2.35,2.05 -2.35,-2.05
  lines w0.1: -0.5,0 0.5,0 ; 0,-0.5 0,0.5
3D body: height 1.45, standoff 0, extent -0.9,-1.55 0.9,1.55

## SOT-23-CH6_N [mm] "SOT23, 6-Leads, Body 2.9x1.7mm, Pitch 0.95mm, Lead Span 2.8mm, IPC Medium Density"
height 1.45
pads (6):
  rect 1.1x0.65 smd: 1(-1.2,0.95) 2(-1.2,0) 3(-1.2,-0.95) 4(1.2,-0.95) 5(1.2,0) 6(1.2,0.95)
Top Overlay:
  circle w0.25: c-1.2,1.825 r0.125
  lines w0.2: -0.25,-1.55 -0.25,1.55 0.25,1.55 0.25,-1.55 -0.25,-1.55
Mechanical 13:
  lines w0.1: -0.9,-1.55 0.9,-1.55 0.9,1.55 -0.9,1.55 -0.9,-1.55
Mechanical 15:
  lines w0.05: -2,-1.8 2,-1.8 2,1.8 -2,1.8 -2,-1.8
  lines w0.1: -0.5,0 0.5,0 ; 0,-0.5 0,0.5
3D body: height 1.45, standoff 0, extent -0.9,-1.55 0.9,1.55

## SPST_NO [mm]
pads (4):
  rect 2.5x1.6 smd: 1(-5,2.25) 2(5,2.25) 3(-5,-2.25) 4(5,-2.25)
Top Overlay:
  lines w0.254: -6.5,-3.25 -6.5,3.25 6.5,3.25 6.5,-3.25 -6.5,-3.25
Mechanical 13:
  lines w0.1: -3.15,-3.052 -3.15,3.069 3.099,3.069 3.099,-3.052 -3.15,-3.052
Mechanical 15:
  lines w0.1: -0.5,-0.004 0.5,-0.004 ; 0,-0.504 0,0.496 ; -6.426,-3.154 -6.426,3.171 6.426,3.171 6.426,-3.154 -6.426,-3.154
3D body: height 4, standoff 0, extent -0.889,-0.944 0.889,0.936
3D body: height 1, standoff 0, extent -5.563,1.876 5.55,2.638
3D body: height 1, standoff 0, extent -5.55,-2.62 5.563,-1.858
3D body: height 3, standoff 0, extent -3.124,-3.027 3.099,3.069

## T910W-10K SR PASSIVES [mm]
pads (3):
  rect 3x2.1 smd: CW1(-2.04,-2.5) CW3(-2.04,2.5) WIPER(2.04,0.04)
Top Overlay:
  lines w0.2: -3.938,-3.981 -3.938,3.945 3.944,3.945 3.944,-3.981 -3.938,-3.981
Mechanical 13:
  lines w0.2: -3.938,-3.981 -3.938,3.942 3.94,3.942 3.94,-3.981 -3.938,-3.981
Mechanical 15:
  lines w0.2: -3.935,3.54 -3.935,-3.983 3.94,-3.983 3.94,3.54 ; -3.922,3.944 3.95,3.95 ; -0.313,0 0.298,0 ; 0,-0.335 0,0.357

## TE_CRGP0603_IPC_A [mm]
pads (2):
  rect 1.158x1.012 smd paste+0 mask+0: 1(-0.827,0) 2(0.827,0)
Top Overlay:
  lines w0.2: -1.406,-0.906 1.406,-0.906 ; -1.406,0.906 1.406,0.906
Mechanical 10:
  lines w0.2: -1.906,-1.006 1.906,-1.006 1.906,1.006 -1.906,1.006 -1.906,-1.006
  text ".Designator" at 0,0 h1
Mechanical 12:
  lines w0.2: -0.8,-0.4 0.8,-0.4 0.8,0.4 -0.8,0.4 -0.8,-0.4
Mechanical 15:
  lines w0.1: -0.5,0 0.5,0 ; 0,-0.5 0,0.5
  lines w0.2: -1.906,-1.006 1.906,-1.006 1.906,1.006 -1.906,1.006 -1.906,-1.006
3D body "Res_TE_CRGP0603F10K_eec.STEP": height 0.25, standoff 0, extent -1.906,-1.006 1.906,1.006

## TE_CRGP0603_IPC_B [mm]
pads (2):
  rect 0.958x0.912 smd paste+0 mask+0: 1(-0.727,0) 2(0.727,0)
Top Overlay:
  lines w0.2: -1.206,-0.856 1.206,-0.856 ; -1.206,0.856 1.206,0.856
Mechanical 10:
  lines w0.2: -1.456,-0.706 1.456,-0.706 1.456,0.706 -1.456,0.706 -1.456,-0.706
  text ".Designator" at 0,0 h1
Mechanical 12:
  lines w0.2: -0.8,-0.4 0.8,-0.4 0.8,0.4 -0.8,0.4 -0.8,-0.4
Mechanical 15:
  lines w0.1: -0.5,0 0.5,0 ; 0,-0.5 0,0.5
  lines w0.2: -1.456,-0.706 1.456,-0.706 1.456,0.706 -1.456,0.706 -1.456,-0.706
3D body "Res_TE_CRGP0603F10K_eec.STEP": height 0.25, standoff 0, extent -1.456,-0.706 1.456,0.706